# Altium schematic symbol library Switch.SchLib: 13 symbols
Pins are listed as number, name and electrical type; pins without a type are passive.

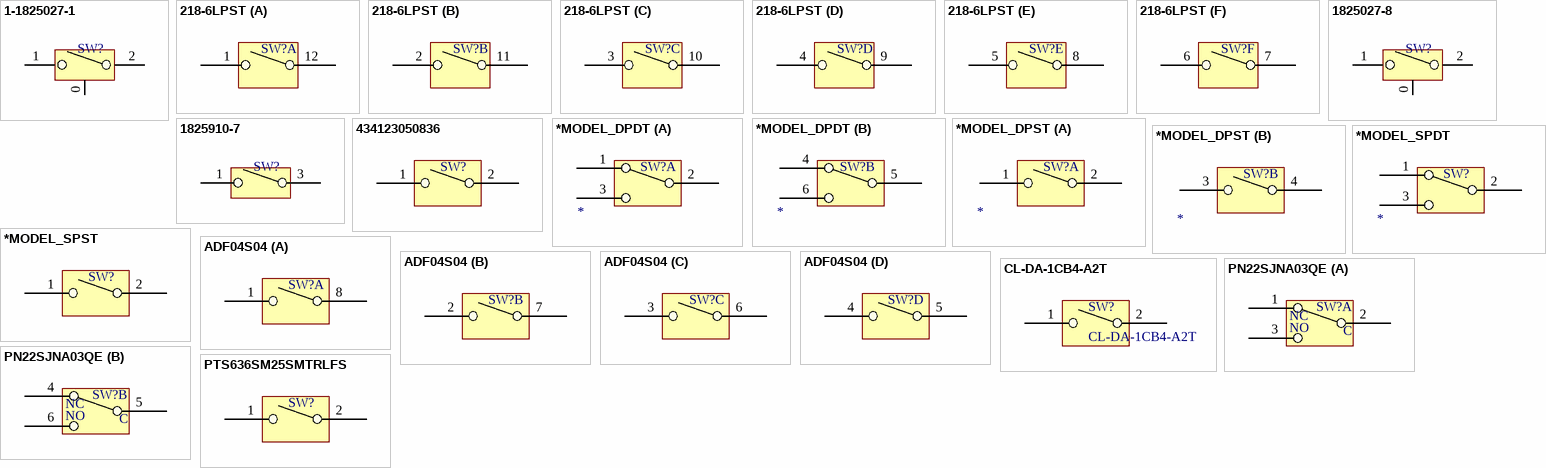
[diagram p0: symbols 1-1825027-1 to PTS636SM25SMTRLFS]

## 1-1825027-1
designator SW?  (value not drawn)
Tactile Switch SPST-NO Side Actuated Through Hole, Right Angle; Manufacturer: TE Connectivity Alcoswitch Switches; Action: Momentary; Circuit: SPST; Mount Type: PTH; Supplier 1: Digi-Key; Supplier 2: Newark; Supplier 3: Arrow; Supplier Part Number 1: 450-1658-ND; Supplier Part Number 2: 40P4336; Supplier Part Number 3: 4X5kR739yIcOi_OerhqPTVXcRddc9kBHfFB879KwgAY
footprint TACT SWITCH 7,1X7X8,35MM - VERT
pins: 0 GND, 1 NO, 2 C

## 218-6LPST
designator SW?  (value not drawn)
SWITCH DIP HALF PITCH 6POS; Manufacturer: TE Connectivity; Action: Latched; Circuit: SPST; Mount Type: SMD; Supplier 1: Mouser; Supplier 2: Digi-Key; Supplier Part Number 1: 774-2186LPST; Supplier Part Number 2: CT2186LPST-ND
footprint 218-6LPST
part A pins: 1 NC, 12 C
part B pins: 2 NC, 11 C
part C pins: 3 NC, 10 C
part D pins: 4 NC, 9 C
part E pins: 5 NC, 8 C
part F pins: 6 NC, 7 C

## 1825027-8
designator SW?  (value not drawn)
Tactile Switch SPST-NO Side Actuated Through Hole, Right Angle; Manufacturer: TE Connectivity Alcoswitch Switches; Action: Momentary; Circuit: SPST; Mount Type: PTH; Supplier 1: Digi-Key; Supplier 2: Allied; Supplier 3: Farnell; Supplier 4: Arrow; Supplier 5: Newark; Supplier Part Number 1: 450-1657-ND; Supplier Part Number 2: 70286944; Supplier Part Number 3: 2610944; Supplier Part Number 4: 7bW_pWxXzYSDzyRh2ci3ut25d8h3FoYxz5i0slCZrhQ; Supplier Part Number 5: 78R8645
footprint TACT SWITCH 7,1X7X5,85MM - VERT
pins: 0 GND, 1 NO, 2 C

## 1825910-7
designator SW?  (value not drawn)
SWITCH TACTILE SPST-NO 0.05A 24V; Manufacturer: TE Connectivity Alcoswitch Switches; Action: Momentary; Circuit: SPST; Mount Type: PTH; Supplier 1: Mouser; Supplier 2: Digi-Key; Supplier 3: Farnell; Supplier Part Number 1: 506-FSM4JAH; Supplier Part Number 2: 450-1804-ND; Supplier Part Number 3: 2469959
footprint TACT SWITCH 6X6X4,3MM
pins: 1 NC, 2 C, 3 C, 4 C

## 434123050836
designator SW?  (value not drawn)
SWITCH TACTILE SPST-NO 0.05A 12V; Manufacturer: Wurth Electronics Inc.; Action: Momentary; Circuit: SPST; Mount Type: SMD; Supplier 1: Farnell; Supplier Part Number 1: 2459527; Supplier 2: Digi-Key; Supplier Part Number 2: 732-7054-1-ND; Supplier 3: Farnell; Supplier Part Number 3: 9471898; Supplier 4: Digi-Key; Supplier Part Number 4: 732-7054-6-ND; Supplier 5: Farnell; Supplier Part Number 5: 2079577; Supplier 6: Farnell; Supplier Part Number 6: 2079521
footprint 4341x30508x6
pins: 1 NC, 2 C

## *MODEL_DPDT
designator SW?, comment Part Number  (value not drawn)
Description; Manufacturer: *; Mount Type: *; Action: *; Circuit: *; Value: *
part A pins: 1 NC, 2 C, 3 NO
part B pins: 4 NC, 5 C, 6 NO

## *MODEL_DPST
designator SW?, comment Part Number  (value not drawn)
Description; Manufacturer: *; Mount Type: *; Action: *; Circuit: *; Value: *
part A pins: 1 NC, 2 C
part B pins: 3 NC, 4 C

## *MODEL_SPDT
designator SW?, comment Part Number  (value not drawn)
Description; Manufacturer: *; Mount Type: *; Action: *; Circuit: *; Value: *
pins: 1 NC, 2 C, 3 NO

## *MODEL_SPST
designator SW?, comment Part Number  (value not drawn)
Description; Manufacturer: *; Mount Type: *; Action: *; Circuit: *; Value: *
pins: 1 NC, 2 C

## ADF04S04
designator SW?  (value not drawn)
SWITCH DIP SPST FLUSH 4POS SMD; Manufacturer: TE Connectivity; Action: Latched; Mount Type: SMD; Circuit: SPST; Supplier 1: Newark; Supplier 2: Mouser; Supplier 3: Allied; Supplier 4: Digi-Key; Supplier Part Number 1: 21R1948; Supplier Part Number 2: 506-ADF04S04; Supplier Part Number 3: 70288277; Supplier Part Number 4: 1-1825059-3-ND
footprint ADF04S04
part A pins: 1 NC, 8 C
part B pins: 2 NC, 7 C
part C pins: 3 NC, 6 C
part D pins: 4 NC, 5 C

## CL-DA-1CB4-A2T
designator SW?
SWITCH DETECT SPST-NO 0.1A 12V; Manufacturer: Copal Electronics Inc; Action: Momentary; Mount Type: SMD; Circuit: SPST-NO; Supplier 1: Digi-Key; Supplier Part Number 1: 563-1306-1-ND
footprint SWITCH DETECT CL-DA-1CB4-A2T
pins: 1 NC, 2 C

## PN22SJNA03QE
designator SW?  (value not drawn)
SWITCH PUSH DPDT 0.2A 30V; Manufacturer: C&K Components; Action: Latched; Supplier 1: Mouser; Supplier 2: Arrow; Supplier 3: Newark; Supplier 4: Digi-Key; Supplier Part Number 1: 611-PN22SJNA03QE; Supplier Part Number 2: 43423722S8966246N9444; Supplier Part Number 3: 39M0771; Supplier Part Number 4: CKN1191-ND; Circuit: DPDT; Mount Type: PTH
footprint PN22SJNA03QE
part A pins: 1 NC, 2 C, 3 NO
part B pins: 4 NC, 5 C, 6 NO

## PTS636SM25SMTRLFS
designator SW?  (value not drawn)
TACT 6.0 X 3.5, 2.5 MM H, 180GF,; Manufacturer: C&K; Action: Momentary; Circuit: SPST; Mount Type: SMD; Value: PTS636SM25SMTRLFS
footprint PTS636SM25SMTRLFS
pins: 1 NC, 2 C